# Altium footprint library 3m-78XX.PcbLib: 1 footprints
Each footprint in its own frame and in the unit in brackets; x right, y up, seen from the top. Pads: shape width x height; smd on the part's side, far side on the other; paste and mask are expansions set on the pad; w line width, h text height; cw(c..) or ccw(c..) is an arc to the next point about the centre after c.
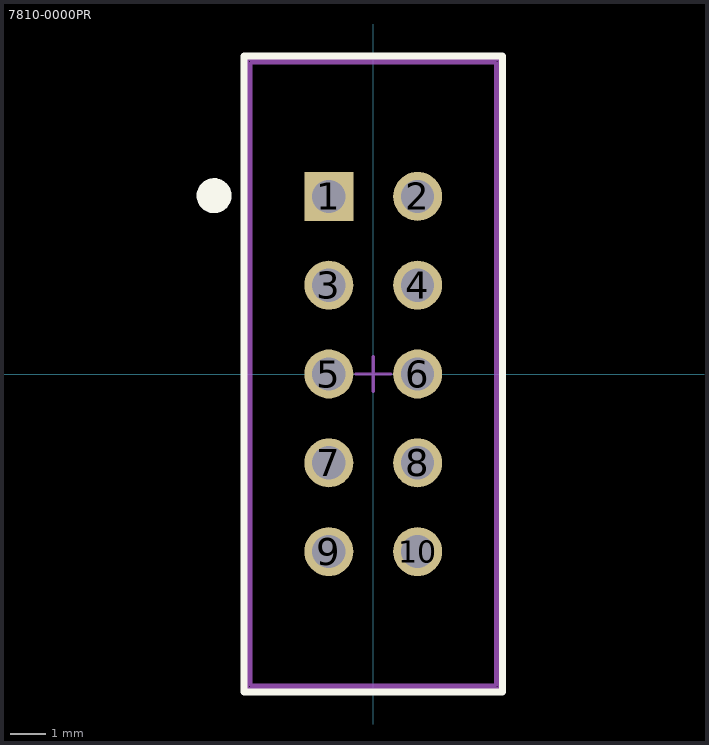
[diagram p0: the footprint, top view; thin cyan lines are the x and y axes]

## 7810-0000PR [mm] "CONN PCB 10POS .100 DUAL 2.8M"
height 4.32
pads (10):
  rect 1.4x1.4 hole 0.95: 1(-1.27,5.08)
  round 1.4 hole 0.95: 2(1.27,5.08) 3(-1.27,2.54) 4(1.27,2.54) 5(-1.27,0) 6(1.27,0) 7(-1.27,-2.54) 8(1.27,-2.54) 9(-1.27,-5.08) 10(1.27,-5.08)
Top Overlay:
  circle w0.5: c-4.55,5.1 r0.25
  lines w0.2: -3.7,-9.1 -3.7,9.1 3.7,9.1 3.7,-9.1 -3.7,-9.1
Mechanical 13:
  lines w0.1: -0.5,0 0.5,0 ; 0,-0.5 0,0.5 ; -3.5,-8.9 3.5,-8.9 3.5,8.9 -3.5,8.9 -3.5,-8.9
Mechanical 15:
  lines w0.1: -3.6,-9 3.6,-9 3.6,9 -3.6,9 -3.6,-9
  text ".Designator" at 0.225,-2.56 h0.5
3D body: height 7.25, standoff -2.89, extent -3.5,-8.885 3.5,8.885